# EAGLE library part JPQ-03S- (library jumpers)
Jumper Block
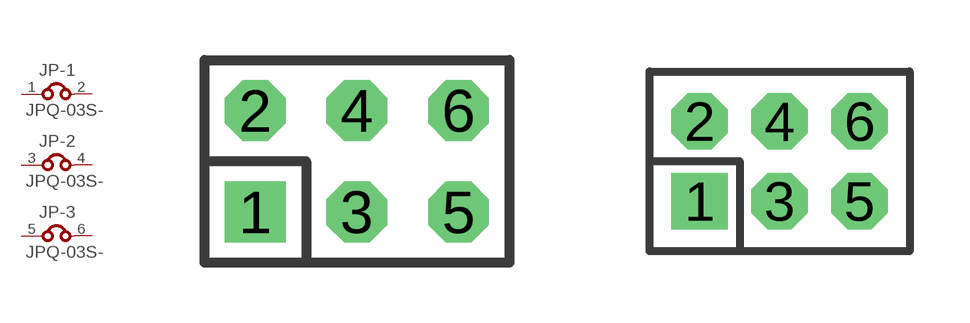
[diagram p0: symbol with the pads of JPQ-03; footprints JPQ-03, JPQ-03M]

Designator prefix JP; gates -1=J -2=J -3=J

## JPQ-03S-100  [JPQ-03]
1  -1:1  pas
2  -1:2  pas
3  -2:1  pas
4  -2:2  pas
5  -3:1  pas
6  -3:2  pas

## JPQ-03S-2MM  [JPQ-03M]
Pads as for JPQ-03

## JPQ-03S-GXC03  [GXC03]
Pads as for JPQ-03

## Footprint JPQ-03 (pad centres in mm)
JUMPER - 0.1" Pitch
drill 1.016 square: 1 -2.54,-1.27
drill 1.016 octagon: 2 -2.54,1.27; 3 0,-1.27; 4 0,1.27; 5 2.54,-1.27; 6 2.54,1.27

## Footprint JPQ-03M (pad centres in mm)
JUMPER - 2.00mm (.079") Pitch
drill 0.914 square: 1 -2,-1
drill 0.914 octagon: 2 -2,1; 3 0,-1; 4 0,1; 5 2,-1; 6 2,1

## Footprint GXC03 (pad centres in mm)
SMD HEADER - 0.1", Vertical
smd 1.27 x 5.08: 1 -2.54,-3.175; 2 -2.54,3.175; 3 0,-3.175; 4 0,3.175; 5 2.54,-3.175; 6 2.54,3.175